# Altium footprint library PCB_deskclok_ext_2021-02-23.PcbLib: 18 footprints (part 2 of 2)
Each footprint in its own frame and in the unit in brackets; x right, y up, seen from the top. Pads: shape width x height; smd on the part's side, far side on the other; paste and mask are expansions set on the pad; w line width, h text height; cw(c..) or ccw(c..) is an arc to the next point about the centre after c.
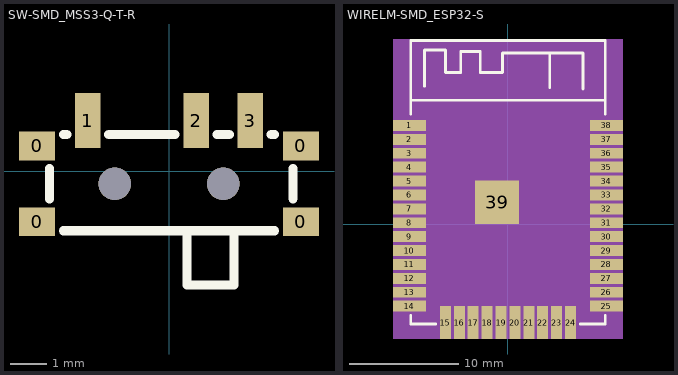
[diagram p1: the footprints below, top view; thin cyan lines are the x and y axes]

## SW-SMD_MSS3-Q-T-R [mm]
pads (9):
  rect 1x0.8 smd: 0(-3.65,-1.4) 0(-3.65,0.7) 0(3.65,-1.4) 0(3.65,0.7)
  rect 0.7x1.524 smd: 1(-2.25,1.4) 2(0.75,1.4) 3(2.25,1.4)
  round 0.9 hole 0.9 unplated: ""(-1.5,-0.35) ""(1.5,-0.35)
Top Overlay:
  lines w0.254: -3.302,-0.769 -3.302,0.069 ; -2.921,-1.651 2.919,-1.651 ; -2.921,1.016 -2.831,1.016 ; -1.669,1.016 0.169,1.016 ; 1.331,1.016 1.669,1.016 ; 2.831,1.016 2.921,1.016 ; 3.429,-0.762 3.429,0.069 ; 0.5,-3.15 0.5,-1.65 1.8,-1.65 1.8,-3.15 0.5,-3.15
3D body "User Library-MSS3_slide_switch_v2.step": height 1.4, standoff -0.5, extent -3.765,-3.141 3.935,1.859

## WIRELM-SMD_ESP32-S [mm]
pads (39):
  rect 3x1 smd: 1(-9,9.005) 2(-9,7.735) 3(-9,6.465) 4(-9,5.195) 5(-9,3.925) 6(-9,2.655) 7(-9,1.385) 8(-9,0.115) 9(-9,-1.155) 10(-9,-2.425) 11(-9,-3.695) 12(-9,-4.965) 13(-9,-6.235) 14(-9,-7.505) 25(9,-7.505) 26(9,-6.235) 27(9,-4.965) 28(9,-3.695) 29(9,-2.425) 30(9,-1.155) 31(9,0.115) 32(9,1.385) 33(9,2.655) 34(9,3.925) 35(9,5.195) 36(9,6.465) 37(9,7.735) 38(9,9.005)
  rect 1x3 smd: 15(-5.715,-9.005) 16(-4.445,-9.005) 17(-3.175,-9.005) 18(-1.905,-9.005) 19(-0.635,-9.005) 20(0.635,-9.005) 21(1.905,-9.005) 22(3.175,-9.005) 23(4.445,-9.005) 24(5.715,-9.005)
  rect 4x4 smd: 39(-1,1.995)
Top Overlay:
  lines w0.254: -8.89,-8.37 -8.89,-9.132 -6.604,-9.132 ; -8.89,10.045 -8.89,16.776 8.89,16.776 8.89,10.045 ; -8.89,11.315 8.89,11.315 ; -7.62,12.584 -7.62,15.886 -5.715,15.886 -5.715,13.854 -4.318,13.854 -4.318,15.759 -2.54,15.759 -2.54,13.854 -0.508,13.854 -0.508,15.632 6.858,15.632 6.858,12.33 ; 3.81,12.458 3.81,15.633 ; 6.604,-9.132 8.89,-9.132 8.89,-8.37
Mechanical 4:
  region: -10.5,16.903 10.506,16.903 10.506,-10.505 -10.5,-10.505
Mechanical 5:
  drawing of 39 lines, arcs and shapes, not listed
3D body "User Library-esp-wroom-32.step": height 3, standoff -0.04, extent -9.307,-8.706 8.763,16.834